# EAGLE library part CON_01X22 (library PP_Connectors)
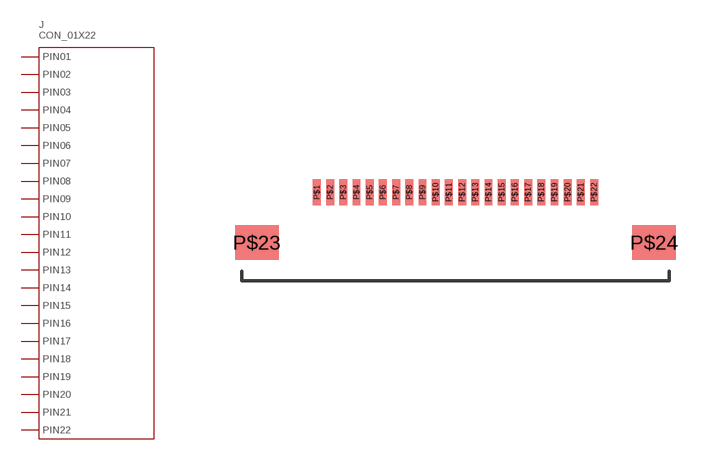
[diagram p27: symbol with the pads of 54548-2271; footprint 54548-2271]

Designator prefix J

## CON_01X22_54548-2271  [54548-2271]
P$1  1
P$2  2
P$3  3
P$4  4
P$5  5
P$6  6
P$7  7
P$8  8
P$9  9
P$10  10
P$11  11
P$12  12
P$13  13
P$14  14
P$15  15
P$16  16
P$17  17
P$18  18
P$19  19
P$20  20
P$21  21
P$22  22

## Footprint 54548-2271 (pad centres in mm)
smd 0.3 x 1: P$1 -5.25,0; P$2 -4.75,0; P$3 -4.25,0; P$4 -3.75,0; P$5 -3.25,0; P$6 -2.75,0; P$7 -2.25,0; P$8 -1.75,0; P$9 -1.25,0; P$10 -0.75,0; P$11 -0.25,0; P$12 0.25,0; P$13 0.75,0; P$14 1.25,0; P$15 1.75,0; P$16 2.25,0; P$17 2.75,0; P$18 3.25,0; P$19 3.75,0; P$20 4.25,0; P$21 4.75,0; P$22 5.25,0
smd 1.65 x 1.3: P$23 -7.525,-1.9; P$24 7.525,-1.9